# Altium schematic symbol library F-E library custom components.SCHLIB: 4 symbols
Pins are listed as number, name and electrical type; pins without a type are passive.

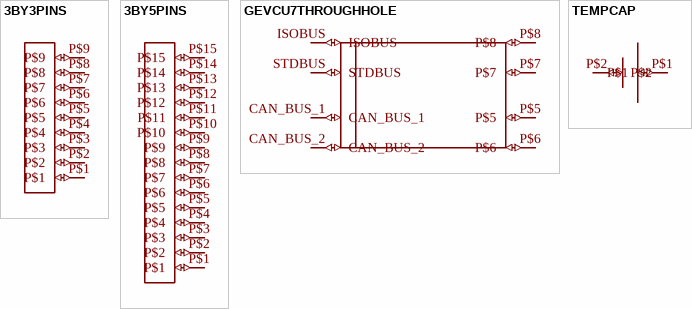
[diagram p0: symbols 3BY3PINS to TEMPCAP]

## 3BY3PINS
designator ?
GateName_1: G$1; SymbolName_1: 3BY3PINS; LibraryName: F-E library custom components; DeviceSetName: 3BY3PINS; Package: 3BY3PINS
footprint 3BY3PINS
pins: P$1 (io), P$2 (io), P$3 (io), P$4 (io), P$5 (io), P$6 (io), P$7 (io), P$8 (io), P$9 (io)

## 3BY5PINS
designator ?
GateName_1: G$1; SymbolName_1: 3BY5PINS; LibraryName: F-E library custom components; DeviceSetName: 3BY5PINS; Package: 3BY5PINS
footprint 3BY5PINS
pins: P$1 (io), P$2 (io), P$3 (io), P$4 (io), P$5 (io), P$6 (io), P$7 (io), P$8 (io), P$9 (io), P$10 (io), P$11 (io), P$12 (io), P$13 (io), P$14 (io), P$15 (io)

## GEVCU7THROUGHHOLE
designator ?
GateName_1: G$1; SymbolName_1: GEVCU7; DeviceName: THROUGHHOLE; LibraryName: F-E library custom components; DeviceSetName: GEVCU7; Package: GEVCU7FP
footprint GEVCU7FP
pins: CAN_BUS_1 (io), CAN_BUS_2 (io), ISOBUS (io), P$5 (io), P$6 (io), P$7 (io), P$8 (io), STDBUS (io)

## TEMPCAP
designator ?
GateName_1: G$1; SymbolName_1: TEMPCAP; LibraryName: F-E library custom components; DeviceSetName: TEMPCAP; Package: TEMPCAP
footprint TEMPCAP
pins: P$1 (io), P$2 (io)